# Altium integrated library T1_Card.IntLib: 128 symbols (part 3 of 3)
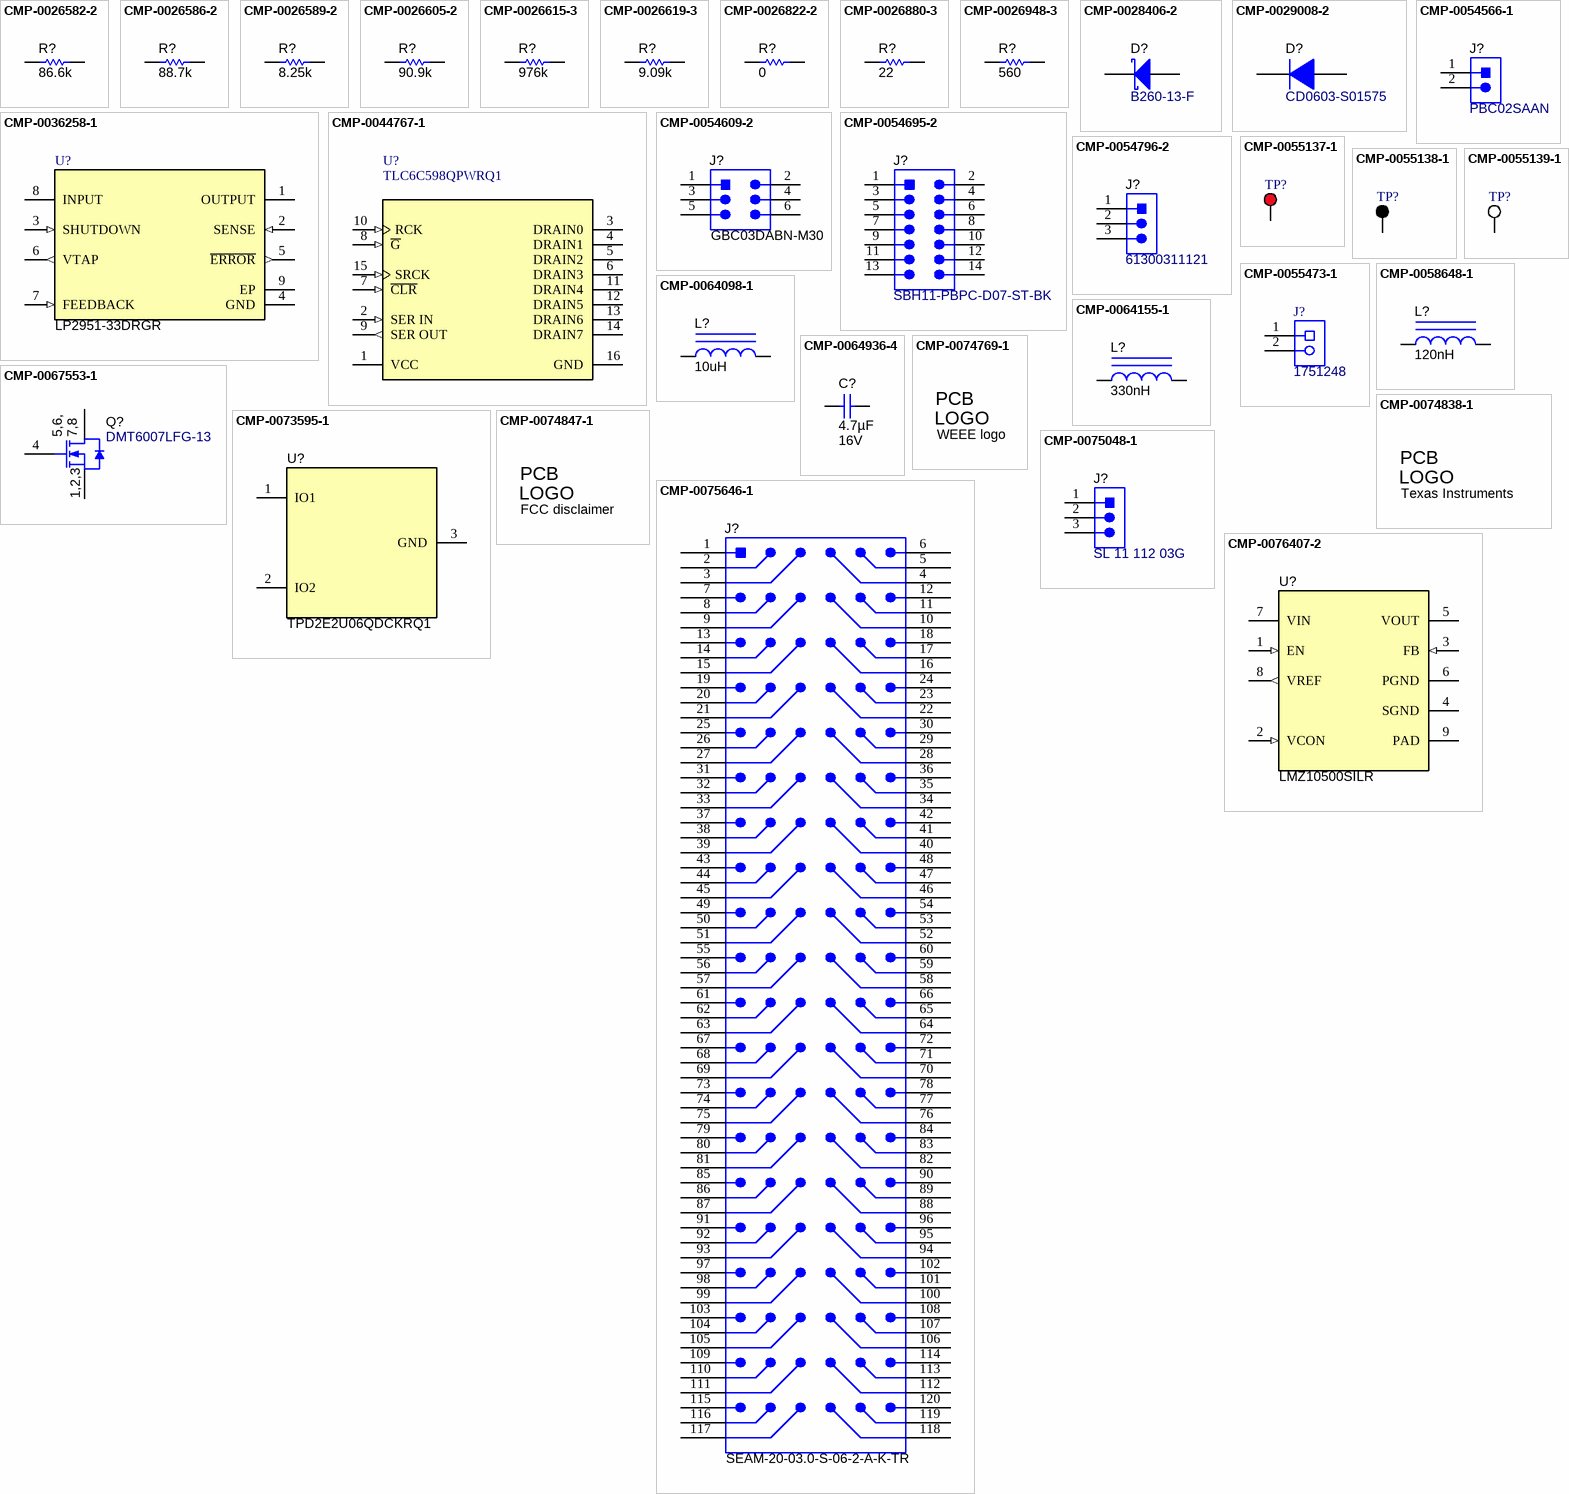
[diagram p5: symbols CMP-0026582-2 to CMP-0076407-2]

## CMP-0054796-2
designator J?, comment 61300311121
Header, 2.54 mm, 3x1, Gold, TH; Manufacturer: Wurth Elektronik; Pitch_mm: 2.54; Green_Lifecycle: Active; Cert_UL: Y; Shrouded: N; Green_REACh: Passed; Gender: Male; Row_Count: 1; MountType: TH; Supplier Part Number 1: 732-5316-ND; PinCount: 3; Color: Black; ClassName: Header; Supplier Part Number 3: 356154; ContactFinish: Gold; ComponentLink1Description: Datasheet URL; ComponentLink1URL: http://katalog.we-online.de/em/datasheet/6130xx11121.pdf; PackageReference: Header, 2.54mm, 3x1, TH; Supplier Part Number 2: 20X0950; Green_EU RoHS-2: Incomplete; CompType: Header; Green_EU RoHS: Passed; Orientation: Vertical; RoHS: Y; PartNumber: 61300311121; Supplier 2: Newark; Supplier 1: Digi-Key; Supplier 3: Farnell
footprint WURTH_61300311121 (Header, 2.54mm, 3x1, TH)
pins: 1, 2, 3
3 alternate drawings of the same symbol

## CMP-0055137-1
designator TP?, comment 5000  (value not drawn)
Test Point, Miniature, Red, TH; Manufacturer: Keystone; CNHeader: FALSE; Green_Lifecycle: Active; Green_REACh: Passed; ContactFinish: Silver; CT: TRUE; ComponentLink1URL: http://www.keyelco.com/userAssets/file/M60-2p60.pdf; Supplier Part Number 2: 534-5000; Publisher: Texas Instruments; Supplier 2: Mouser; Color: Red; RoHS: Y; MountType: TH; Green_EU RoHS-2: Incomplete; Supplier 1: Digi-Key; Green_EU RoHS: Passed; PackageReference: Red Miniature Testpoint; CompType: Test Point; LatestRevisionDate: 26/05/2017; PartNumber: 5000; ComponentLink1Description: Datasheet URL; Supplier Part Number 1: 36-5000-ND
footprint Keystone5000 (For Keystone 500x miniature loop terminals)
pins: 1

## CMP-0055138-1
designator TP?, comment 5001  (value not drawn)
Test Point, Miniature, Black, TH; Manufacturer: Keystone; CNHeader: FALSE; Green_Lifecycle: Active; Green_REACh: Passed; ContactFinish: Silver; CT: TRUE; ComponentLink1URL: http://www.keyelco.com/userAssets/file/M60-2p60.pdf; Supplier Part Number 2: 534-5001; Publisher: Texas Instruments; Supplier 2: Mouser; Color: Black; RoHS: Y; MountType: TH; Green_EU RoHS-2: Incomplete; Supplier 1: Digi-Key; Green_EU RoHS: Passed; PackageReference: Black Miniature Testpoint; CompType: Test Point; LatestRevisionDate: 26/05/2017; PartNumber: 5001; ComponentLink1Description: Datasheet URL; Supplier Part Number 1: 36-5001-ND
footprint Keystone5001 (For Keystone 500x miniature loop terminals)
pins: 1

## CMP-0055139-1
designator TP?, comment 5002  (value not drawn)
Test Point, Miniature, White, TH; Manufacturer: Keystone; CNHeader: FALSE; Green_Lifecycle: Active; Green_REACh: Passed; ContactFinish: Silver; CT: TRUE; ComponentLink1URL: http://www.keyelco.com/userAssets/file/M60-2p60.pdf; Supplier Part Number 2: 82H9632; Publisher: Texas Instruments; Supplier 2: Newark; Supplier Part Number 3: 534-5002; Color: White; Supplier 3: Mouser; RoHS: Y; MountType: TH; Green_EU RoHS-2: Passed; Supplier 1: Digi-Key; Green_EU RoHS: Passed; PackageReference: White Miniature Testpoint; CompType: Test Point; LatestRevisionDate: 26/05/2017; PartNumber: 5002; ComponentLink1Description: Datasheet URL; Supplier Part Number 1: 36-5002-ND
footprint Keystone5002 (For Keystone 500x miniature loop terminals)
pins: 1

## CMP-0055473-1
designator J?, comment 1751248
Conn Term Block, 2POS, 3.5mm, TH; Manufacturer: Phoenix Contact; CNHeader: FALSE; Green_Lifecycle: Not Set; Green_REACh: Incomplete; CompType: Terminal Block; CT: TRUE; ComponentLink1URL: https://sps06.itg.ti.com/sites/KMS/crossdivteams/altium/docs/ComponentDatasheets/PhoenixContact_1751248.pdf; Supplier Part Number 2: 651-1751248; Publisher: Texas Instruments; Supplier 2: Mouser; RoHS: Y; MountType: TH; Green_EU RoHS-2: Incomplete; Supplier 1: Digi-Key; Green_EU RoHS: Incomplete; PackageReference: 11x8.5x7.3mm; LatestRevisionDate: 26/05/2017; PartNumber: 1751248; ComponentLink1Description: Datasheet URL; Supplier Part Number 1: 277-5719-ND
footprint CONN_1751248 (Phoenix Contact)
pins: 1, 2

## CMP-0058648-1
designator L?, comment ValueDisplayed: 120nH  (hidden comment: LQG15HSR12J02D)
Inductor, Multilayer, Air Core, 120 nH, 0.15 A, 1.3 ohm, SMD; Manufacturer: MuRata; Isat: 0.15A @ % inductance drop; Irms: 0.15A @ C rise; Green_Lifecycle: Active; SizeAreaWB_mm2: 3; DCR_ohm: 1.3; Green_REACh: Passed; Value1: 1.3 ohm; Value: 120nH; Imax_A: 150mA; SizeZ_mm: 0.55; SizeX_mm: 1; SizeY_mm: 0.5; Value2: 0.15A; AEC Category: Q200; ComponentLink1URL: http://search.murata.co.jp/Ceramy/image/img/PDF/ENG/L0075S0083LQG15HS.pdf; Supplier Part Number 2: 81-LQG15HSR12J02D; Publisher: Texas Instruments; Supplier 2: Mouser; Published: 2008-06-26; RoHS: Y; Material: Air Core; MountType: SMT; Green_EU RoHS-2: Incomplete; Supplier 1: Digi-Key; Green_EU RoHS: Passed; PackageReference: 0402 polarized; SizeArea_mm2: 0.5; CompType: Inductor; Ind_H: 120nH; LatestRevisionDate: 2017-06-02; PartNumber: LQG15HSR12J02D; AEC Qualified: ?; ComponentLink1Description: Datasheet link; Supplier Part Number 1: 490-2636-1-ND; Technology: Multilayer
footprint IND_LQG15H (MuRata)
pins: 1, 2

## CMP-0064098-1
designator L?, comment ValueDisplayed: 10uH  (hidden comment: 74437346100)
Inductor, Shielded Drum Core, Powdered Iron, 10 uH, 3 A, 0.075 ohm, SMD; Manufacturer: Wurth Elektronik; Isat: 7.3A @ 20% inductance drop; Irms: 3A @ 40C rise; Green_Lifecycle: Active; SizeAreaWB_mm2: 73.96; DCR_ohm: 0.075; Green_REACh: Passed; Value: 10uH; Imax_A: 3A; SizeZ_mm: 3; SizeX_mm: 6.6; SizeArea_mm2: 43.56; Ind_H: 10µH; AEC Qualified: N; AEC Category: Q200; ComponentLink1URL: http://katalog.we-online.de/kataloge/eisos/media/pdf/74437346100.pdf; Publisher: Texas Instruments; Published: 2008-06-26; RoHS: Y; Value1: 0.075 ohm; Material: Powdered Iron; MountType: SMT; Green_EU RoHS-2: Incomplete; Supplier 1: Digi-Key; Green_EU RoHS: Passed; PackageReference: 7.30x2.80x6.60mm; SizeY_mm: 6.6; Value2: 3A; CompType: Inductor; LatestRevisionDate: 2017-06-02; PartNumber: 74437346100; ComponentLink1Description: Datasheet link; AEC Grade: N/A; Supplier Part Number 1: 732-3379-1-ND; Technology: Shielded Drum Core
footprint WE-LHMI_7030 (Wurth)
pins: 1, 2

## CMP-0064155-1
designator L?, comment ValueDisplayed: 330nH  (hidden comment: 744383360033)
Inductor, 330 nH, 5.5 A, 0.014 ohm, SMD; Manufacturer: Wurth Elektronik; Isat: 8.3A @ 20% inductance drop; Irms: 5.5A @ 40C rise; Green_Lifecycle: Active; SizeAreaWB_mm2: 16; DCR_ohm: 0.014; Green_REACh: Passed; Value: 330nH; Imax_A: 5.5A; SizeZ_mm: 2; SizeX_mm: 3; SizeArea_mm2: 9; AEC Category: Q200; ComponentLink1URL: http://katalog.we-online.de/pbs/datasheet/744383360033.pdf; Supplier Part Number 2: 710-744383360033; Publisher: Texas Instruments; Supplier 2: Mouser; Published: 2008-06-26; RoHS: Y; Value1: 0.014 ohm; Material: ?; MountType: SMT; Green_EU RoHS-2: Incomplete; Supplier 1: Digi-Key; Green_EU RoHS: Passed; PackageReference: SMD, 2-Leads, Body 3.2x3.2mm; SizeY_mm: 3; Value2: 5.5A; CompType: Inductor; Ind_H: 330nH; LatestRevisionDate: 2017-06-02; PartNumber: 744383360033; AEC Qualified: ?; ComponentLink1Description: Datasheet link; Supplier Part Number 1: 732-5690-1-ND
footprint WE-MAPI_3020 (SMD, 2-Leads, Body 3.2x3.2mm)
pins: 1, 2

## CMP-0064936-4
designator C?, comment Cap_F: 4.7µF  VDC_V: 16V  (hidden comment: GRM188Z71C475KE21D)
CAP, CERM, 4.7 uF, 16 V,+/- 10%, X7R, 0603; Manufacturer: MuRata; TaMin_C: -55°C; Polarized: N; SizeAreaWB_mm2: 4.68; Value1: Unknown; U/M: EA; Value: 4.7uF; TaMax_C: 125°C; SizeZ_mm: 1; SizeX_mm: 1.6; SizeY_mm: 0.8; Cap_Case: 0603; SizeArea_mm2: 1.28; CompType: Capacitor; AEC Category: Q200; Publisher: Texas Instruments; TempCo: X7R; Published: 2008-06-19; RoHS: Y; MountType: SMT; PackageReference: 0603; Tolerance_%: 10%; Value2: 16V; LatestRevisionDate: 2017-06-05; PartNumber: GRM188Z71C475KE21D; AEC Qualified: N; ComponentLink1Description: Datasheet link; AEC Grade: N/A; Technology: Ceramic; ValueDisplayed: 4.7uF; ComponentLink1URL: http://search.murata.co.jp/Ceramy/image/img/A01X/G101/ENG/GRM188Z71C475KE21-01.pdf
footprint 0603 (0603 from SM-752 data)
footprint 0603_HV (Ernesto recommended land pattern.  26 mil between pads.)
footprint 0603L (0603 from SM-752 data)
footprint 0603S
footprint 0603M (0603 from SM-752 data)
pins: 1, 2

## CMP-0067553-1
designator Q?, comment DMT6007LFG-13
MOSFET, N-CH, 60 V, 15 A, AEC-Q101, 8-PowerVDFN; Alternate Manufacturer: None; Manufacturer: Diodes Inc.; Rdson45_ohm: 8.5m; QgTyp_nC: 41.3; SizeAreaWB_mm2: 18.49; Vgs_V: 20V; Value1: 0.0085 ohm; VdsMax_V: 60V; U/M: EA; Value: 60V; IdsMax_A: 15A; SizeZ_mm: 0.8; SizeX_mm: 3.3; Value2: 41.3 nC; SizeArea_mm2: 10.89; ChType: N; AEC Qualified: Y; AEC Category: Q101; ComponentLink1URL: https://www.diodes.com/assets/Datasheets/DMT6007LFG.pdf; Supplier Part Number 2: 621-DMT6007LFG-13; Publisher: Texas Instruments; Supplier 2: Mouser; Published: 2008-06-19; RoHS: Y; MountType: SMT; Supplier 1: Digi-Key; LatestRevisionNote: Added parts.; PackageReference: 8-PowerVDFN; SizeY_mm: 3.3; CompType: MOSFET; LatestRevisionDate: 2017-06-05; PartNumber: DMT6007LFG-13; ComponentLink1Description: Datasheet link; Supplier Part Number 1: DMT6007LFG-13-ND
footprint PowerDI3333-8 (SMD, 8-Leads, Body 3.3x3.3mm, Pitch 0.65mm)
pins: 1 S, 2 S, 3 S, 4 G, 5 D, 6 D, 7 D, 8 D, 9 D
text: 5,6,; 7,8; 1,2,3

## CMP-0073595-1
designator U?, comment TPD2E2U06QDCKRQ1
Automotive Dual-Channel High-Speed ESD Protection Device, DCK0003A (SOT-SC70-3); Alternate Manufacturer: Texas Instruments; SizeAreaWB_mm2: 9.3; U/M: EA; SizeZ_mm: 1.1; SizeX_mm: 2.1; SizeY_mm: 2.0; SizeArea_mm2: 4.2; CompType: IC; ComponentLink1URL: http://www.ti.com/lit/ds/symlink/tpd2e2u06-q1.pdf; Publisher: Texas Instruments; PackageDescription: SOT-SC70-3; RoHS: Y; Footprint Path 6: C:\AltiumLibraries\Footprints\TI\.PcbLib; MountType: SMT; Manufacturer: Texas Instruments; PackageReference: DCK0003A; LatestRevisionDate: 2017-06-09; PartNumber: TPD2E2U06QDCKRQ1; ComponentLink1Description: Datasheet Link
footprint DCK0003A_N (SOT23, 3-Leads, Body 2.0x1.25mm, Pitch 0.65mm, Lead Span 2.1mm, IPC Medium Density)
footprint DCK0003A_L (SOT23, 3-Leads, Body 2.0x1.25mm, Pitch 0.65mm, Lead Span 2.1mm, IPC High Density)
footprint DCK0003A_M (SOT23, 3-Leads, Body 2.0x1.25mm, Pitch 0.65mm, Lead Span 2.1mm, IPC Low Density)
pins: 1 IO1, 2 IO2, 3 GND (power)

## CMP-0074769-1
designator Logo?, comment WEEE logo  (no BOM)
Library Reference: WEEE logo; Lib Reference: WEEE logo; PartNumber: WEEE logo
footprint WEEE_Minimum (WEEElie bin)
text: PCB; LOGO

## CMP-0074838-1
designator Logo?, comment Texas Instruments  (no BOM)
Texas Instrument Corporate Signature; SymbolCreator: a0412235; Lib Reference: TI_Logo; Library Reference: Logo; SymbolVersion: 2011-08-22; Published: 2009-03-03; Publisher: Texas Instruments; ClassName: Logo; LatestRevisionDate: 2017-07-06; PartNumber: Texas Instruments
footprint TI_Horizontal_Overlay_Medium
footprint TI_Horizontal_Overlay_Small
footprint TI_Stacked_SolderMask_Small
footprint TI_Stacked_SolderMask_Small_Vertical
footprint TI_Symbol_Overlay_Medium
footprint TI_Symbol_Overlay_Small
footprint TI_Symbol_SolderMask_Medium
footprint TI_Symbol_SolderMask_Small
footprint TI_Horizontal_SolderMask_Medium
footprint TI_Horizontal_SolderMask_Small
footprint TI_Stacked_Overlay_Medium
footprint TI_Stacked_Overlay_Medium_Vertical
footprint TI_Stacked_Overlay_Small
footprint TI_Stacked_Overlay_Small_Vertical
footprint TI_Stacked_SolderMask_Medium
footprint TI_Stacked_SolderMask_Medium_Vertical
text: PCB; LOGO

## CMP-0074847-1
designator Logo?, comment FCC disclaimer  (no BOM)
FCC_disclaimer; Library Reference: Logo; Published: 2009-03-03; Publisher: Texas Instruments; LatestRevisionDate: 2017-07-06; Lib Reference: FCC_disclaimer; PartNumber: FCC disclaimer
footprint FCC_disclaimer
footprint FCC_disclaimer_stacked
text: PCB; LOGO

## CMP-0075048-1
designator J?, comment SL 11 112 03G
Header, 2.54mm, 3x1, Gold, TH; Manufacturer: Fischer Elektronik; CT: False; CNHeader: True; ComponentLink1URL: http://www.fischerelektronik.de/web_fischer/public/index.xhtml; Publisher: Texas Instruments; CompType: Header; PackageReference: TH, 3-Leads, Body 2.5x7.62mm, Pitch 2.54mm; LatestRevisionDate: 2017-07-12; ClassName: Header; MountType: TH; PartNumber: SL 11 112 03G; ComponentLink1Description: Datasheet URL
footprint Fischer_SL-11-112-03G (TH, 3-Leads, Body 2.5x7.62mm, Pitch 2.54mm)
pins: 1, 2, 3
3 alternate drawings of the same symbol

## CMP-0075646-1
designator J?, comment SEAM-20-03.0-S-06-2-A-K-TR
Header(shrouded), 1.27mm, 20x6, Gold, SMT; Manufacturer: Samtec; Gender: Male; Cert_UL: Y; Current_A: 1.8A; Voltage_V: 240V; CT: False; Row_Count: 6; ComponentLink1Description: Datasheet URL; RoHS: Y; Orientation: Vertical; PackageReference: Header(shrouded), 1.27mm, 20x6, SMT; Color: Black; PartNumber: SEAM-20-03.0-S-06-2-A-K-TR; PinCount: 120; Publisher: Texas Instruments; ContactFinish: Gold; Shrouded: Y; ComponentLink1URL: http://suddendocs.samtec.com/catalog_english/seam.pdf; LatestRevisionDate: 2017-07-12; CompType: Header; CNHeader: False; MountType: SMT
footprint Samtec_SEAM-20-03_0-x-06-2-A-K (Header(shrouded), 1.27mm, 20x6, SMT)
pins: 1, 2, 3, 4, 5, 6, 7, 8, 9, 10, 11, 12, 13, 14, 15, 16, 17, 18, 19, 20, 21, 22, 23, 24, 25, 26, 27, 28, 29, 30, 31, 32, 33, 34, 35, 36, 37, 38, 39, 40, 41, 42, 43, 44, 45, 46, 47, 48, 49, 50, 51, 52, 53, 54, 55, 56, 57, 58, 59, 60, 61, 62, 63, 64, 65, 66, 67, 68, 69, 70, 71, 72, 73, 74, 75, 76, 77, 78, 79, 80, 81, 82, 83, 84, 85, 86, 87, 88, 89, 90, 91, 92, 93, 94, 95, 96, 97, 98, 99, 100, 101, 102, 103, 104, 105, 106, 107, 108, 109, 110, 111, 112, 113, 114, 115, 116, 117, 118, 119, 120

## CMP-0076407-2
designator U?, comment LMZ10500SILR
2.7V to 5.5V, 650mA High Density Nano Module, SIL0008A (USIP-8); Manufacturer: Texas Instruments; Alternate PartNumber: LMZ10500SILT; SizeAreaWB_mm2: 14.4; SizeArea_mm2: 7.8; SizeZ_mm: 1.5; SizeY_mm: 3.0; CompType: IC; SizeX_mm: 2.6; AEC Category: Q200; AEC Qualified: N; ComponentLink1Description: Datasheet Link; RoHS: Y; PackageReference: SIL0008A; PartNumber: LMZ10500SILR; PackageDescription: uSIP-8; Alternate Manufacturer: Texas Instruments; ComponentLink1URL: http://www.ti.com/lit/ds/symlink/lmz10500.pdf; MountType: SMT; ComponentLink2Description: Product Folder; ComponentLink2URL: http://www.ti.com/product/lmz10500; ComponentLink3Description: Online Datasheet; ComponentLink3URL: http://www.ti.com/product/lmz10500/datasheet
footprint SIL0008A (POS, 8-Leads, Body 2.5x3.0mm, Pitch 0.65mm, NSC Recommended)
pins: 1 EN (in), 2 VCON (in), 3 FB (in), 4 SGND (power), 5 VOUT (power), 6 PGND (power), 7 VIN (power), 8 VREF (out), 9 PAD (power)

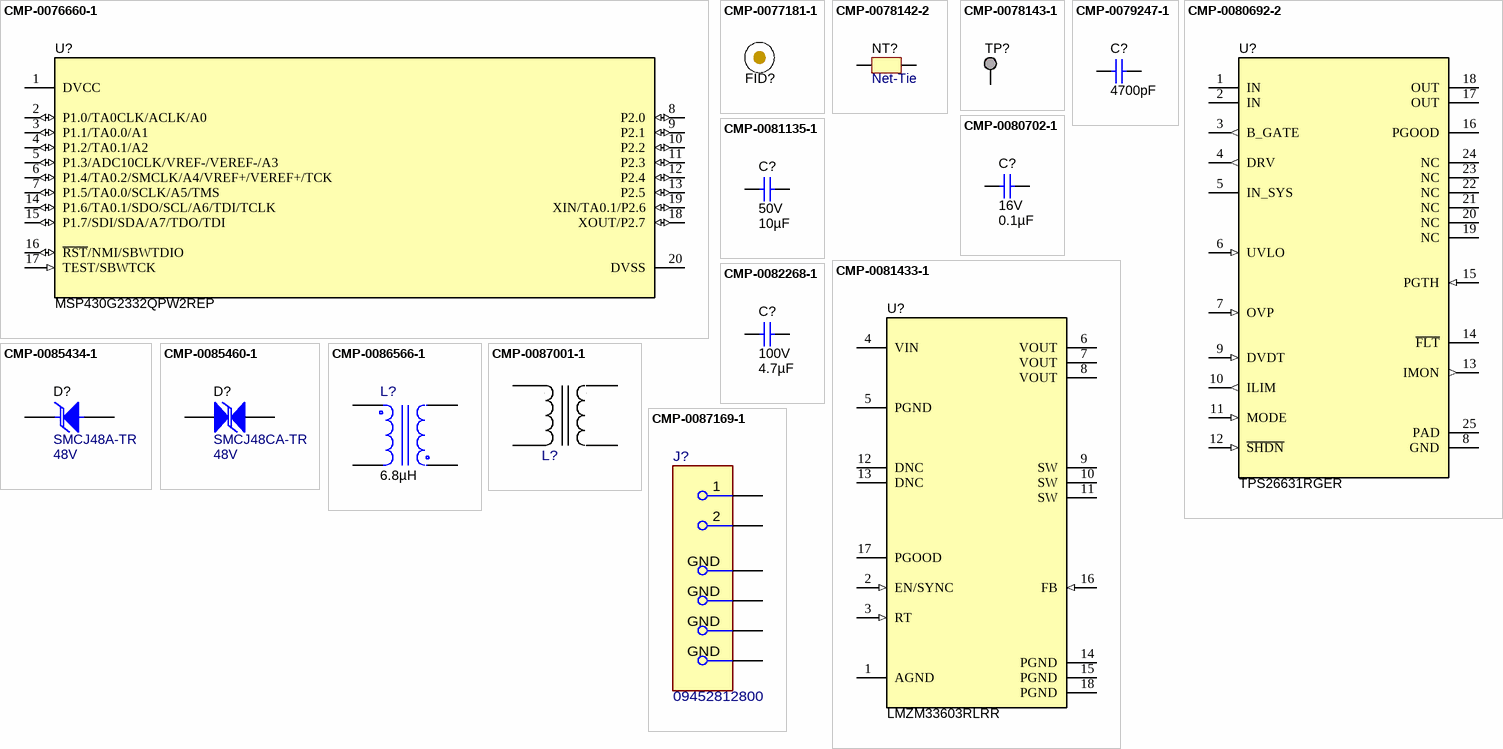
[diagram p3: symbols CMP-0076660-1 to CMP-0087169-1]

## CMP-0076660-1
designator U?, comment MSP430G2332QPW2REP
Enhanced Product Mixed Signal Microcontroller, PW0020A (TSSOP-20); Manufacturer: Texas Instruments; Alternate PartNumber: MSP430G2332QPW2EP; SizeAreaWB_mm2: 73.96; SizeArea_mm2: 43.56; SizeZ_mm: 1.2; SizeY_mm: 6.6; U/M: EA; CompType: IC; ComponentLink1Description: Datasheet Link; RoHS: Y; PackageReference: PW0020A; PartNumber: MSP430G2332QPW2REP; Publisher: Texas Instruments; PackageDescription: TSSOP-20; Alternate Manufacturer: Texas Instruments; ComponentLink1URL: http://www.ti.com/lit/ds/symlink/msp430g2332-ep.pdf; LatestRevisionDate: 2017-06-09; MountType: SMT; SizeX_mm: 6.6
footprint PW0020A_L (TSOP, 20-Leads, Body 6.5x4.4mm, Pitch 0.65mm, IPC High Density)
footprint PW0020A_M (TSOP, 20-Leads, Body 6.5x4.4mm, Pitch 0.65mm, IPC Low Density)
footprint PW0020A_N (TSOP, 20-Leads, Body 6.5x4.4mm, Pitch 0.65mm, IPC Medium Density)
pins: 1 DVCC (power), 2 P1.0/TA0CLK/ACLK/A0 (io), 3 P1.1/TA0.0/A1 (io), 4 P1.2/TA0.1/A2 (io), 5 P1.3/ADC10CLK/VREF-/VEREF-/A3 (io), 6 P1.4/TA0.2/SMCLK/A4/VREF+/VEREF+/TCK (io), 7 P1.5/TA0.0/SCLK/A5/TMS (io), 8 P2.0 (io), 9 P2.1 (io), 10 P2.2 (io), 11 P2.3 (io), 12 P2.4 (io), 13 P2.5 (io), 14 P1.6/TA0.1/SDO/SCL/A6/TDI/TCLK (io), 15 P1.7/SDI/SDA/A7/TDO/TDI (io), 16 ~{RST}/NMI/SBWTDIO (io), 17 TEST/SBWTCK (in), 18 XOUT/P2.7 (io), 19 XIN/TA0.1/P2.6 (io), 20 DVSS (power)

## CMP-0077181-1
designator FID?, comment Fiducial  (value not drawn)
Fiducial mark.  There is nothing to buy or mount.; CompType: Fiducial; Manufacturer: N/A; MountType: N/A; PackageReference: N/A; PartNumber: N/A; ClassName: FiducialMark; Library Reference: Fiducial
footprint Fiducial10-30
footprint Fiducial15-30
footprint Fiducial10-20
footprint Fiducial20-40
footprint Fiducial6.4-20

## CMP-0078142-2
designator NT?, comment Net-Tie  (net tie, no BOM)
Single point connection between nets.; CompType: Net-Tie; PackageReference: N/A; Library Reference: Net-Tie; Manufacturer: N/A; PartNumber: N/A; MountType: SMT
footprint Net-Tie_0805_HV_NoOverlay (0805_HV pads tied by 10mil copper trace which can be cut.  An 0805 part can be placed on pads.)
footprint Net-Tie_10milWide_30milLong (10mil net tie, no solder mask opening, no solder paste)
footprint NetTie_0402 (Net Tie 0402 size)
footprint Net-Tie_50milWide_30milLong (50mil net tie, no solder mask opening, no solder paste)
footprint Net-Tie_20milWide_60milLong (20mil net tie, no solder mask opening, no solder paste)
footprint Net-Tie_10mil (10mil net tie, no solder mask opening, no solder paste)
footprint NetTie_1206_NoOverlay (1206 pads tied by 10mil copper trace which can be cut.  Part can be placed on pads.)
footprint Net-Tie_0805_HV (0805_HV pads tied by 10mil copper trace which can be cut.  An 0805 part can be placed on pads.)
footprint NetTie_1206 (1206 pads tied by 10mil copper trace which can be cut.  Part can be placed on pads.)
footprint Net-Tie_5milWide_60milLong (5mil net tie, no solder mask opening, no solder paste)
footprint NetTie_0603 (Net Tie 0603 size)
pins: 1, 2

## CMP-0078143-1
designator TP?, comment TESTPOINT123  (value not drawn)  (no BOM)
TEST POINT.  No entry in BOM.; CompType: Testpoint; PackageReference: N/A; Library Reference: TESTPOINT; Manufacturer: N/A; PartNumber: N/A
footprint TESTPOINT
footprint TP_VIA_018RND008
footprint TP_VIA_060RND040
footprint TP_25MIL-SMT
footprint TP_50MIL-25MILHOLE
footprint TP_60MIL-SMT
footprint TP_VIA_024RND014
footprint TP_50MIL-SMT
footprint TP_60MIL-SMT-155
pins: 1

## CMP-0079247-1
designator C?, comment ValueDisplayed: 4700pF  (hidden comment: GCM188R72A472KA37D)
CAP, CERM, 4700 pF, 100 V,+/- 10%, X7R, AEC-Q200 Grade 1, 0603; Manufacturer: MuRata; Cap_F: 4.7nF; SizeAreaWB_mm2: 4.68; SizeArea_mm2: 1.28; AEC Qualified: Y; AEC Category: Q200; Value: 4700pF; TaMax_C: 125°C; SizeZ_mm: 1; Polarized: N; TaMin_C: -55°C; VDC_V: 100V; SizeY_mm: 0.8; U/M: EA; CompType: Capacitor; SizeX_mm: 1.6; Cap_Case: 0603; ComponentLink1Description: Datasheet link; RoHS: Y; Supplier Part Number 3: 81-GCM188R72A472K37D; Tolerance_%: 10%; Supplier 1: Digi-Key; PackageReference: 0603; Technology: Ceramic; PartNumber: GCM188R72A472KA37D; TempCo: X7R; Supplier Part Number 2: 06AC6010; Supplier 2: Newark; AEC Grade: 1; Value2: 100V; ComponentLink1URL: http://search.murata.co.jp/Ceramy/image/img/A01X/G101/ENG/GCM188R72A472KA37-01.pdf; MountType: SMT; Supplier Part Number 1: 490-4930-1-ND; Supplier 3: Mouser
footprint 0603 (0603 from SM-752 data)
footprint 0603M (0603 from SM-752 data)
footprint 0603L (0603 from SM-752 data)
footprint 0603_HV (Ernesto recommended land pattern.  26 mil between pads.)
footprint 0603S
pins: 1, 2

## CMP-0080692-2
designator U?, comment TPS26631RGER
4.5V - 60V, 6A 29mΩ eFuse with Reverse Polarity Protection, RGE0024H (VQFN-24); Alternate PartNumber: TPS26631RGET; Alternate Manufacturer: Texas Instruments; SizeX_mm: 4; AEC Qualified: N; AEC Category: Q200; SizeAreaWB_mm2: 25; SizeArea_mm2: 16; SizeZ_mm: 1; CompType: IC; ComponentLink1URL: http://www.ti.com/lit/ds/symlink/tps26631.pdf; PartNumber: TPS26631RGER; SizeY_mm: 4; ComponentLink3URL: http://www.ti.com/product/tps26631/datasheet; ComponentLink2URL: http://www.ti.com/product/tps26631; ComponentLink2Description: Product Folder; PackageReference: RGE0024H; PackageDescription: VQFN-24; ComponentLink3Description: Online Datasheet; MountType: SMT; ComponentLink1Description: Datasheet Link; Manufacturer: Texas Instruments
footprint RGE0024H (QFN, 24-Leads, Body 4x4mm, Pitch 0.5mm, Thermal Pad 2.7x2.7mm, TI Recommended)
footprint RGE0024H_NV (QFN, 24-Leads, Body 4x4mm, Pitch 0.5mm, Thermal Pad 2.7x2.7mm, TI Recommended)
pins: 1 IN (power), 2 IN (power), 3 B_GATE (out), 4 DRV (out), 5 IN_SYS (power), 6 UVLO (in), 7 OVP (in), 8 GND (power), 9 DVDT (in), 10 ILIM (out), 11 MODE (in), 12 ~{SHDN} (in), 13 IMON (out), 14 ~{FLT} (oc), 15 PGTH (in), 16 PGOOD (oc), 17 OUT (power), 18 OUT (power), 19 NC, 20 NC, 21 NC, 22 NC, 23 NC, 24 NC, 25 PAD (power)

## CMP-0080702-1
designator C?, comment VDC_V: 16V  ValueDisplayed: 0.1µF  (hidden comment: GCM155R71C104JA55D)
CAP, CERM, 0.1 µF, 16 V,+/- 5%, X7R, AEC-Q200 Grade 1, 0402; Manufacturer: MuRata; Cap_F: 100nF; SizeAreaWB_mm2: 3; SizeArea_mm2: 0.5; AEC Qualified: Y; AEC Category: Q200; Value: 0.1uF; TaMax_C: 125°C; SizeZ_mm: 0.6; AEC Grade: 1; Polarized: N; TaMin_C: -55°C; U/M: EA; CompType: Capacitor; Cap_Case: 0402; ComponentLink1Description: Datasheet link; RoHS: Y; Tolerance_%: 5%; Supplier 1: Digi-Key; PackageReference: 0402; Technology: Ceramic; PartNumber: GCM155R71C104JA55D; TempCo: X7R; Supplier Part Number 2: 81-GCM155R71C104JA5D; Supplier 2: Mouser; SizeY_mm: 0.5; Value2: 16V; ComponentLink1URL: https://search.murata.co.jp/Ceramy/image/img/A01X/G101/ENG/GCM155R71C104JA55-01.pdf; MountType: SMT; Supplier Part Number 1: 490-16433-1-ND; SizeX_mm: 1
footprint 0402 (0402 from SM-752 data)
footprint 0402M (0402 from SM-752 data)
footprint 0402L (0402 from SM-752 data)
footprint 0402S (Based on C0402S footprint from PADS legacy)
pins: 1, 2

## CMP-0081135-1
designator C?, comment VDC_V: 50V  ValueDisplayed: 10µF  (hidden comment: GRJ32ER71H106KE11L)
CAP, CERM, 10 µF, 50 V,+/- 10%, X7R, 1210; Manufacturer: MuRata; TaMin_C: -55°C; ESR_ohm: 1m; Polarized: N; SizeAreaWB_mm2: 14.7; Value1: 0.001 ohm; U/M: EA; Value: 10uF; TaMax_C: 125°C; SizeZ_mm: 2.8; SizeX_mm: 3.2; SizeY_mm: 2.5; Cap_Case: 1210; SizeArea_mm2: 8; CompType: Capacitor; AEC Category: Q200; ComponentLink1URL: https://search.murata.co.jp/Ceramy/image/img/A01X/G101/ENG/GRJ32ER71H106KE11-01.pdf; Supplier Part Number 2: 81-GRJ32ER71H106KE1L; Supplier 2: Mouser; TempCo: X7R; RoHS: Y; MountType: SMT; Supplier 1: Digi-Key; PackageReference: 1210; Tolerance_%: 10%; Value2: 50V; PartNumber: GRJ32ER71H106KE11L; AEC Qualified: N; Cap_F: 10µF; ComponentLink1Description: Datasheet link; AEC Grade: N/A; Supplier Part Number 1: 490-10961-1-ND; Technology: Ceramic
footprint 1210_280 (SMD, 2-Leads, Body 3.6x2.8mm, Height 2.8mm)
pins: 1, 2

## CMP-0081433-1
designator U?, comment LMZM33603RLRR
4V to 36V, 2A Step-Down DC/DC Power Module in Compact 7x9x4mm QFN Package, RLR0018A (B3QFN-18); Alternate PartNumber: LMZM33603RLRT; Alternate Manufacturer: Texas Instruments; SizeAreaWB_mm2: 99; Rating: Catalog; SizeZ_mm: 4.1; SizeX_mm: 7; SizeY_mm: 9; SizeArea_mm2: 63; CompType: IC; AEC Qualified: N; AEC Category: Q200; ComponentLink1URL: http://www.ti.com/lit/ds/symlink/lmzm33603.pdf; PackageDescription: B3QFN-18; RoHS: Y; MountType: SMT; ComponentLink2URL: http://www.ti.com/product/lmzm33603; ComponentLink3Description: Online Datasheet; ComponentLink2Description: Product Folder; Manufacturer: Texas Instruments; ComponentLink3URL: http://www.ti.com/product/lmzm33603/datasheet; PackageReference: RLR0018A; Operating Temprature Range: -40 to 105 C; PartNumber: LMZM33603RLRR; ComponentLink1Description: Datasheet Link
footprint RLR0018A (B3QFN-18)
pins: 1 AGND (power), 2 EN/SYNC (in), 3 RT (in), 4 VIN (power), 5 PGND (power), 6 VOUT (power), 7 VOUT (power), 8 VOUT (power), 9 SW (power), 10 SW (power), 11 SW (power), 12 DNC, 13 DNC, 14 PGND (power), 15 PGND (power), 16 FB (in), 17 PGOOD, 18 PGND (power)

## CMP-0082268-1
designator C?, comment VDC_V: 100V  ValueDisplayed: 4.7µF  (hidden comment: GCM32DC72A475KE02L)
CAP, CERM, 4.7 µF, 100 V,+/- 10%, X7S, AEC-Q200 Grade 1, 1210; Manufacturer: MuRata; TaMin_C: -55°C; ESR_ohm: 1m; Polarized: N; SizeAreaWB_mm2: 14.7; Value1: 0.001 ohm; U/M: EA; Value: 4.7uF; TaMax_C: 125°C; SizeZ_mm: 2.2; SizeX_mm: 3.2; SizeY_mm: 2.5; Cap_Case: 1210; SizeArea_mm2: 8; CompType: Capacitor; AEC Qualified: Y; IRMS_A: 6A; AEC Grade: 1; AEC Category: Q200; ComponentLink1URL: https://search.murata.co.jp/Ceramy/image/img/A01X/G101/ENG/GCM32DC72A475KE02-01.pdf; Supplier Part Number 2: 81-GCM32DC72A475KE2L; Supplier 2: Mouser; TempCo: X7S; RoHS: Y; MountType: SMT; Supplier 1: Digi-Key; PackageReference: 1210; Tolerance_%: 10%; Value2: 100V; PartNumber: GCM32DC72A475KE02L; Cap_F: 4.7µF; ComponentLink1Description: Datasheet link; Supplier Part Number 1: 490-14484-1-ND; Technology: Ceramic
footprint 1210_220 (1210)
footprint 1210_220M (1210)
footprint 1210_220L (1210)
pins: 1, 2

## CMP-0085434-1
designator D?, comment SMCJ48A-TR  value 48V
Diode, TVS, Uni, 48 V, 77.4 Vc, 1500 W, 20 A, SMC; Manufacturer: STMicroelectronics; SizeX_mm: 8.13; SizeY_mm: 6.22; SizeArea_mm2: 50.5686; Ipp: 20A; SizeZ_mm: 2.62; Value1: 77.4V; AEC Qualified: N; AEC Category: Q101; RJA_CperW: 90; Ppk: 1.5kW; Vbr_Min: 53.3V; SizeAreaWB_mm2: 83.2686; RoHS: Y; ComponentLink1URL: https://www.st.com/resource/en/datasheet/smcj.pdf; PartNumber: SMCJ48A-TR; VRWM: 48V; CompType: TVS; MountType: SMT; ComponentLink1Description: Datasheet link; Vc: 77.4V; PackageReference: SMC
footprint SMC (Molded Diode, 2-Leads, Body 6.9x5.8mm, IPC Medium Density, based on OnSemi component dimensions and land patterns)
pins: 1 K, 2 A

## CMP-0085460-1
designator D?, comment SMCJ48CA-TR  value 48V
Diode, TVS, Bi, 48 V, 77.4 Vc, 1500 W, 20 A, SMC (No Polarity Mark); Manufacturer: STMicroelectronics; AEC Category: Q101; Ipp: 20A; Vc: 77.4V; RJA_CperW: 90; SizeX_mm: 7.94; SizeY_mm: 5.9; SizeArea_mm2: 46.846; SizeAreaWB_mm2: 78.526; Ppk: 1.5kW; AEC Qualified: N; Vbr_Min: 53.3V; SizeZ_mm: 2.62; MountType: SMT; PartNumber: SMCJ48CA-TR; Value1: 77.4V; ComponentLink1URL: https://www.st.com/resource/en/datasheet/smcj.pdf; ComponentLink1Description: Datasheet link; CompType: TVS; VRWM: 48V; RoHS: Y; PackageReference: SMC (No Polarity Mark)
footprint SMC_Bi (SMC, no polarity mark)
pins: 1, 2

## CMP-0086566-1
designator L?, comment Ind_H: 6.8µH  (hidden comment: 7448991068)
Shielded 2 Coil Inductor Array  Inductance - Connected in Series 6.8µH Inductance - Connected in Parallel 44mOhm DC Resistance (DCR) - Parallel 5A Nonstandard; Manufacturer: Wurth Electronics; SizeZ_mm: 4.1mm; DCR_ohm: 0.044; Symbol Name: SYM-7448991068; AEC Qualified: No; PackageReference: SMT_10MM0_10MM0; ComponentLink1Description: Datasheet; RoHS: TRUE; ComponentLink1URL: https://katalog.we-online.de/pbs/datasheet/7448991068.pdf; PartNumber: 7448991068
footprint FP-7448991068_SMT_10MM0_10MM0-MFG
pins: 1, 2, 3, 4

## CMP-0087001-1
designator L?, comment DLW32MH201XK2  (value not drawn)
200µH @ 100kHz 2 Line Common Mode Choke Surface Mount 70mA DCR 4.8 Ohm; Manufacturer: Murata; AEC Grade: Grade 1; AEC Qualified: Yes; Symbol Name: SYM-DLW32MH201XK2; SizeZ_mm: 2.5mm; PartNumber: DLW32MH201XK2; ComponentLink1Description: Datasheet; RoHS: TRUE; PackageReference: 1210; ComponentLink1URL: https://www.murata.com/en-sg/products/productdata/8801029685278/QFLC9124.pdf?1544104811000
footprint FP-DLW32MH201XK2_1210-MFG
pins: 1, 2, 3, 4

## CMP-0087169-1
designator J?, comment 09452812800
T1 Industrial jack AH IP20; Manufacturer: Harting Electronics; Shrouded: true; Symbol Name: SYM-09452812800; Row_Count: 1; ComponentLink1URL: https://forum.upverter.com/uploads/default/original/3X/d/e/dea2c31e5810f6c153b28b85ed7e997e71109f89.PDF; RoHS: UNKNOWN; PackageReference: HDR2; PartNumber: 09452812800; PinCount: 2; ComponentLink1Description: Datasheet
footprint FP-09452812800_HDR2-MFG
pins: 1, 2, 3 GND (power), 4 GND (power), 5 GND (power), 6 GND (power)